# EAGLE library part OSA-SS-212DM3,000 (library UBCSolar)
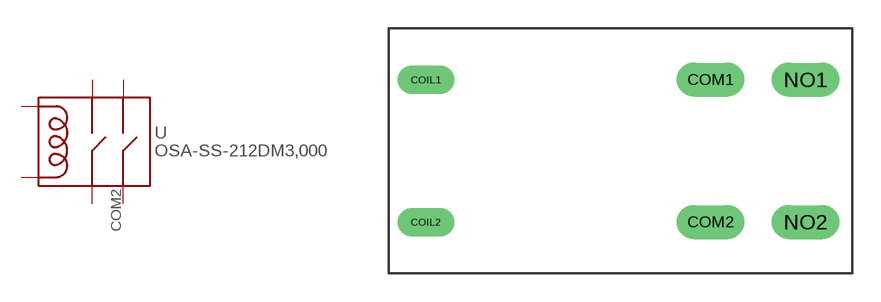
[diagram p20: symbol with the pads of OSA-SS-212DM3,000; footprint OSA-SS-212DM3,000]

Designator prefix -

## OSA-SS-212DM3,000  [OSA-SS-212DM3,000]
COIL1  COIL1
COIL2  COIL2
COM1  COM1
COM2  COM2
NO1  NO1
NO2  NO2

## Footprint OSA-SS-212DM3,000 (pad centres in mm)
https://www.digikey.ca/product-detail/en/te-connectivity-potter-brumfield-relays/OSA-SS-212DM5000/OSA-SS-212DM5000-ND/2398601
drill 1 long: COIL1 -15,3.75; COIL2 -15,-3.75
drill 1.2 long: COM1 0,3.75; COM2 0,-3.75; NO1 5,3.75; NO2 5,-3.75